# Altium schematic symbol library 2_pin_Header_Sch.SchLib: 1 symbol
Pins are listed as number, name and electrical type; pins without a type are passive.

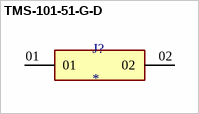
[diagram p0: symbol TMS-101-51-G-D]

## TMS-101-51-G-D
designator J?
Connector Header Through Hole 2 position; MF: Samtec; MP: TMS-101-51-G-D; Availability: In Stock; SnapEDA_Link: https://www.snapeda.com/parts/TMS-101-51-G-D/Samtec/view-part/?ref=snap; Price: None; Check_prices: https://www.snapeda.com/parts/TMS-101-51-G-D/Samtec/view-part/?ref=eda; Package: None; Value: *; Purchase-URL: https://pricing.snapeda.com/search/part/TMS-101-51-G-D/?ref=eda
footprint SAMTEC_TMS-101-51-G-D
pins: 01, 02